# EAGLE library part LB10-RA (library LEDSegmentDisplays)
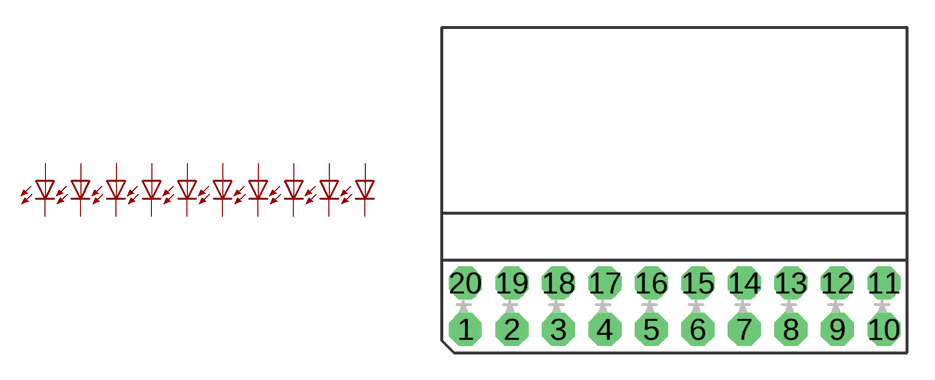
[diagram p0: symbol with the pads of DIPLED10; footprint DIPLED10]

Designator prefix -; gates -5=LED -6=LED -7=LED -4=LED -3=LED -8=LED -9=LED -2=LED -1=LED -10=LED

## LB10-RA  [DIPLED10]
1  -1:A  pas
2  -2:A  pas
3  -3:A  pas
4  -4:A  pas
5  -5:A  pas
6  -6:A  pas
7  -7:A  pas
8  -8:A  pas
9  -9:A  pas
10  -10:A  pas
11  -10:C  pas
12  -9:C  pas
13  -8:C  pas
14  -7:C  pas
15  -6:C  pas
16  -5:C  pas
17  -4:C  pas
18  -3:C  pas
19  -2:C  pas
20  -1:C  pas

## Footprint DIPLED10 (pad centres in mm)
drill 0.813 pad 1.778 octagon: 1 -11.43,-5.08; 2 -8.89,-5.08; 3 -6.35,-5.08; 4 -3.81,-5.08; 5 -1.27,-5.08; 6 1.27,-5.08; 7 3.81,-5.08; 8 6.35,-5.08; 9 8.89,-5.08; 10 11.43,-5.08; 11 11.43,-2.54; 12 8.89,-2.54; 13 6.35,-2.54; 14 3.81,-2.54; 15 1.27,-2.54; 16 -1.27,-2.54; 17 -3.81,-2.54; 18 -6.35,-2.54; 19 -8.89,-2.54; 20 -11.43,-2.54